# Altium footprint library Con 050 DSubminiature.PcbLib: 113 footprints (part 8 of 8)
Each footprint in its own frame and in the unit in brackets; x right, y up, seen from the top. Pads: shape width x height; smd on the part's side, far side on the other; paste and mask are expansions set on the pad; w line width, h text height; cw(c..) or ccw(c..) is an arc to the next point about the centre after c.
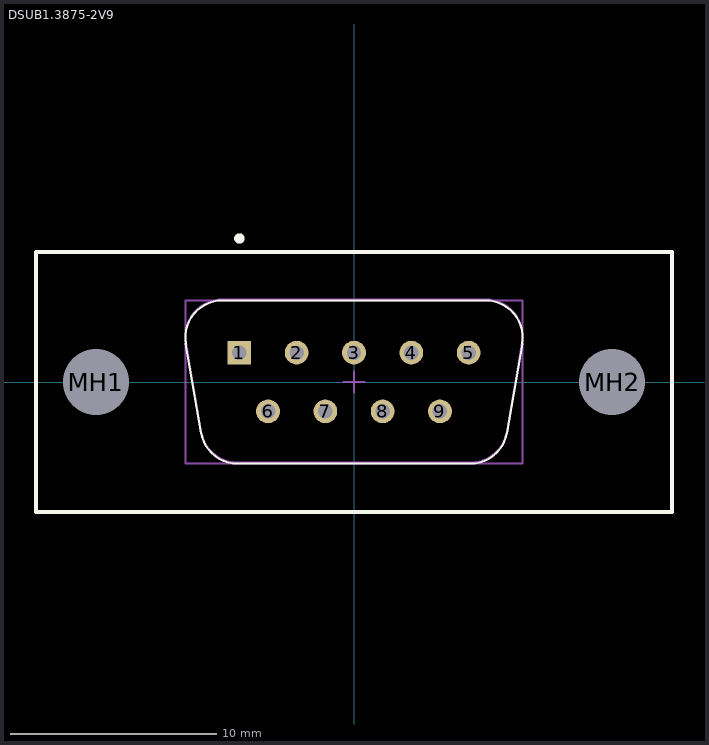
[diagram p7: the footprint, top view; thin cyan lines are the x and y axes]

## DSUB1.3875-2V9 [mm] "Connector; D-Sub, Thru-Hole; 9 Position; Vertical; Body 30.81x9.60mm (LxW)"
height 8.4
pads (11):
  rect 1.15x1.15 hole 0.7: 1(-5.55,1.42)
  round 1.15 hole 0.7: 2(-2.775,1.42) 3(0,1.42) 4(2.775,1.42) 5(5.55,1.42) 6(-4.163,-1.42) 7(-1.388,-1.42) 8(1.388,-1.42) 9(4.163,-1.42)
  round 2.9 hole 3.2: MH1(-12.495,0) MH2(12.495,0)
Top Overlay:
  circle w0.25: c-5.55,6.95 r0.125
  lines w0.1: -8.147,1.858 -7.404,-2.467 ; -8.14,1.837 cw(c-6.367,2.15) -6.367,3.95 ; -7.4,-2.474 ccw(c-5.641,-2.164) -5.641,-3.95 ; -6.406,3.95 6.406,3.95 ; -5.686,-3.95 5.686,-3.95 ; 5.641,-3.95 ccw(c5.641,-2.164) 7.4,-2.474 ; 6.367,3.95 cw(c6.367,2.15) 8.14,1.837 ; 7.404,-2.467 8.147,1.858
  lines w0.2: -15.405,-6.3 -15.405,6.3 15.405,6.3 15.405,-6.3 -15.405,-6.3
Mechanical 13:
  lines w0.1: -8.144,1.887 -7.403,-2.425 ; -8.14,1.887 cw(c-6.367,2.2) -6.367,4 6.367,4 cw(c6.367,2.2) 8.14,1.887 ; -7.4,-2.424 ccw(c-5.641,-2.114) -5.641,-3.9 5.641,-3.9 ccw(c5.641,-2.114) 7.4,-2.424 ; 7.403,-2.425 8.144,1.887 ; -15.405,-6.3 15.405,-6.3 15.405,6.3 -15.405,6.3 -15.405,-6.3 ; -8.165,-3.95 -8.165,3.95 8.165,3.95 8.165,-3.95 -8.165,-3.95
Mechanical 15:
  lines w0.1: -0.5,0 0.5,0 ; 0,-0.5 0,0.5
3D body: height 8.4, standoff 2.5, extent -8.164,-3.949 8.164,3.949
3D body: height 8.4, standoff 0, extent -15.404,-6.299 15.404,6.299